# Altium schematic symbol library SLib.SchLib: 12 symbols
Pins are listed as number, name and electrical type; pins without a type are passive.

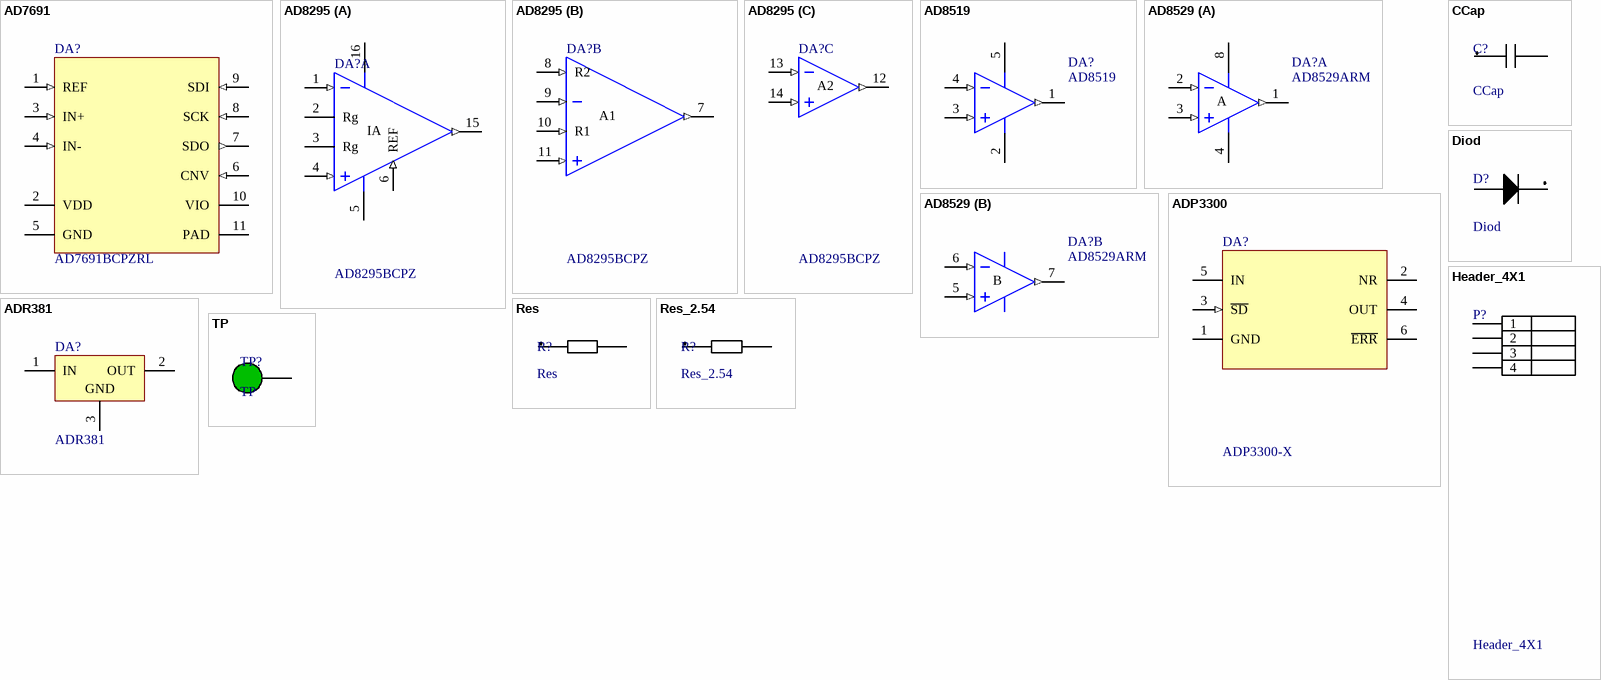
[diagram p0: symbols AD7691 to TP]

## AD7691
designator DA?, comment AD7691BCPZRL
18-Bit, 1.5 LSB INL, 250 kSPS PulSAR  Differential ADC; Published: 8-Jun-2000; LatestRevisionDate: 04-Mar-2005; LatestRevisionNote: Stylized 3D Model Added.; DatasheetVersion: REV.B 1998; PackageVersion: revB, 1996; PackageReference: D-16_B; Publisher: Altium Limited; ComponentLink1Description: Manufacturer Link; ComponentLink1URL: http://www.analog.com/ad7691; ComponentLink2Description: Datasheet; ComponentLink2URL: http://www.analog.com/ad7691
footprint QFN-10N (10-Lead Lead Frame Chip Scale Package [QFN (LFCSP_WD)] 3 mm x 3 mm Body, Very Very Thin, Dual Lead, Pitch 0,50mm, IPC Medium Density)
pins: 1 REF (in), 2 VDD (power), 3 IN+ (in), 4 IN- (in), 5 GND (power), 6 CNV (in), 7 SDO (out), 8 SCK (in), 9 SDI (in), 10 VIO (power), 11 PAD (power)

## AD8295
designator DA?, comment AD8295BCPZ
Precision Instrumentation Amplifier  with Signal Processing Amplifiers; Published: 8-Jun-2000; LatestRevisionDate: 04-Mar-2005; LatestRevisionNote: Stylized 3D Model Added.; DatasheetVersion: REV.B 1998; PackageVersion: revB, 1996; PackageReference: D-16_B; Publisher: Altium Limited; ComponentLink1Description: Manufacturer Link; ComponentLink1URL: http://www.analog.com/ad8295; ComponentLink2Description: Datasheet; ComponentLink2URL: http://www.analog.com/ad8295
footprint LFCSP_VQ-16N (16-Lead Lead Frame Chip Scale Package [LFCSP_VQ] 4 mm x 4 mm Body, Very Thin Quad, Pitch 0,65mm, IPC Medium Density)
part A pins: 1 IN- (in), 2 Rg, 3 Rg (power), 4 IN+ (in), 5 V- (power), 6 REF (in), 15 OUT (out), 16 V+ (power)
part B pins: 7 OUT (out), 8 R2 (in), 9 IN- (in), 10 R1 (in), 11 IN+ (in)
part C pins: 12 OUT (out), 13 IN- (in), 14 IN+ (in)
part A text: IA
part B text: A1
part C text: A2

## AD8519
designator DA?
8 MHz Rail-to-Rail  Operational Amplifier; Published: 8-Jun-2000; LatestRevisionDate: 17-Jul-2002; LatestRevisionNote: Re-released for DXP Platform.; DatasheetVersion: Rev. F 2004; PackageVersion: 2005; PackageReference: KS-5N; Publisher: Altium Limited; Code_JEDEC: MO-178AA; ComponentLink1Description: Manufacturer Link; ComponentLink1URL: http://www.analog.com/ad8519; ComponentLink2Description: Datasheet; ComponentLink2URL: http://www.analog.com/ad8519
footprint RJ-5 (SOT-23/SC-74A; 5 Leads; Body 3.1 x 3 mm, inc. leads (LxW max))
footprint KS-5N (5-Lead Thin Shrink Small Outline Transistor Package [SC70] (KS-5), Pitch 0,65mm, IPC Medium Density)
pins: 1 OUT (out), 2 V- (power), 3 IN+ (in), 4 IN- (in), 5 V+ (power)

## AD8529
designator DA?, comment AD8529ARM
8 MHz Rail-to-Rail  Operational Amplifier; Published: 8-Jun-2000; LatestRevisionDate: 04-Mar-2005; DatasheetVersion: Rev. F 2004; PackageVersion: 2004; PackageReference: RM-8; Publisher: Altium Limited; ComponentLink1Description: Manufacturer Link; ComponentLink1URL: http://www.analog.com/ad8529; ComponentLink2Description: Datasheet; ComponentLink2URL: http://www.analog.com/ad8529
footprint RM-8N (8-Lead Mini Small Outline Package [MSOP] (RM-8), Pitch 0,65mm, IPC Medium Density)
part A pins: 1 OUT (out), 2 IN- (in), 3 IN+ (in), 4 V- (power), 8 V+ (power)
part B pins: 5 IN+ (in), 6 IN- (in), 7 OUT (out)
part A text: A
part B text: B

## ADP3300
designator DA?, comment ADP3300-X
High Accuracy anyCAP 50 mA Low Dropout Linear Regulator; Published: 8-Jun-2000; LatestRevisionDate: 04-Mar-2005; LatestRevisionNote: Stylized 3D Model Added.; DatasheetVersion: REV.B 1998; PackageVersion: revB, 1996; PackageReference: D-16_B; Publisher: Altium Limited; ComponentLink1Description: Manufacturer Link; ComponentLink1URL: http://www.analog.com/adp3300; ComponentLink2Description: Datasheet; ComponentLink2URL: http://www.analog.com/adp3300
footprint SOT23127P600-8N (SOT23-6)
pins: 1 GND (power), 2 NR, 3 ~{SD} (in), 4 OUT (power), 5 IN (power), 6 ~{ERR} (oc)

## ADR381
designator DA?
Precision Low-Drift 2.500 V SOT-23 Voltage Reference; Published: 8-Jun-2000; LatestRevisionDate: 29-May-2009; LatestRevisionNote: IPC-7351 Footprint Added.; DatasheetVersion: REV. 0 1997; PackageVersion: rev0; PackageReference: RT-3_N; Publisher: Altium Limited; PackageDescription: 3-Pin SOT-23 Package 0.95 mm Pitch, 2.4 mm Lead Span; ComponentLink1Description: Manufacturer Link; ComponentLink1URL: http://www.analog.com/adr381; ComponentLink2Description: Datasheet; ComponentLink2URL: http://www.analog.com/adr381
footprint RT-3_N (SOT23, 3-Leads, Body 2.9x1.3mm, Pitch 0.95mm, Lead Span 2.4mm, IPC Medium Density)
footprint RT-3_L (SOT23, 3-Leads, Body 2.9x1.3mm, Pitch 0.95mm, Lead Span 2.4mm, IPC High Density)
footprint RT-3_M (SOT23, 3-Leads, Body 2.9x1.3mm, Pitch 0.95mm, Lead Span 2.4mm, IPC Low Density)
pins: 1 IN (power), 2 OUT (power), 3 GND (power)

## CCap
designator C?
Ceramic capacitor; Value: *; Type: *
footprint 1005[0402]-Xs0.45Ys0.6A0.46RR_CAP (Chip; Body 1.1 x 0.5 mm (LxW typ))
footprint 1005[0402]-Xs0.7Ys0.7A0.46RR_CAP (Chip; Body 1.1 x 0.5 mm (LxW typ))
footprint 1608[0603]-Xs1.0Ys1.1A0.5RR_CAP (Chip; Body 1.6 x 0.8 mm (LxW typ))
footprint 1608[0603]-Xs1.0Ys1.1A0.76RR_CAP (Chip; Body 1.6 x 0.8 mm (LxW typ))
footprint 2012[0805]-Xs1.5Ys1.4A0.8RR_CAP (Chip; Body 2.0 x 1.3 mm (LxW typ))
footprint 2012[0805]-Xs1.5Ys1.4A0.8R_CAP (Chip; Body 2.0 x 1.3 mm (LxW typ))
footprint 2012[0805]-Xs1.5Ys1.4A1.0RR_CAP (Chip; Body 2.0 x 1.3 mm (LxW typ))
footprint 2012[0805]-Xs1.5Ys1.4A1.0R_CAP (Chip; Body 2.0 x 1.3 mm (LxW typ))
signal-integrity model Capacitor
pins: 1, 2

## Diod
designator D?
Diode; RefDef: *; Type: *
signal-integrity model Diode
footprint SOD110 (Molded Diode, 2-Leads, Body 2,1x1,4mm, IPC Medium Density)
pins: 1 A(+), 2 K (-)

## Header_4X1
designator P?
Header, 4-Pin, Single row; RefDef: *; Type: *
footprint HDR1X4 2mm (Connector; Header; 4x1 Position)
signal-integrity model Connector
pins: 1, 2, 3, 4

## Res
designator R?
Resistor; Value: *
footprint 1005[0402]-Xs0.45Ys0.6A0.46RR_RES (Chip; Body 1.1 x 0.5 mm (LxW typ))
footprint 1005[0402]-Xs0.7Ys0.7A0.46RR_RES (Chip; Body 1.1 x 0.5 mm (LxW typ))
footprint 1608[0603]-Xs1.0Ys1.1A0.5RR_RES (Chip; Body 1.6 x 0.8 mm (LxW typ))
footprint 1608[0603]-Xs1.0Ys1.1A0.76RR_RES (Chip; Body 1.6 x 0.8 mm (LxW typ))
footprint 2012[0805]-Xs1.5Ys1.4A0.8RR_RES (Chip; Body 2.0 x 1.3 mm (LxW typ))
footprint 2012[0805]-Xs1.5Ys1.4A0.8R_RES (Chip; Body 2.0 x 1.3 mm (LxW typ))
footprint 2012[0805]-Xs1.5Ys1.4A1.0RR_RES (Chip; Body 2.0 x 1.3 mm (LxW typ))
footprint 2012[0805]-Xs1.5Ys1.4A1.0R_RES (Chip; Body 2.0 x 1.3 mm (LxW typ))
signal-integrity model Resisitor
footprint 6332[2512]-XS4.0YS1.5A4.2R_RES (Chip Resistor, Body 6.3x3.2mm, IPC High Density)
pins: 1, 2

## Res_2.54
designator R?
Resistor; Value: *
footprint 1005[0402]-Xs0.45Ys0.6A0.46RR_RES (Chip; Body 1.1 x 0.5 mm (LxW typ))
footprint 1005[0402]-Xs0.7Ys0.7A0.46RR_RES (Chip; Body 1.1 x 0.5 mm (LxW typ))
footprint 1608[0603]-Xs1.0Ys1.1A0.5RR_RES (Chip; Body 1.6 x 0.8 mm (LxW typ))
footprint 1608[0603]-Xs1.0Ys1.1A0.76RR_RES (Chip; Body 1.6 x 0.8 mm (LxW typ))
footprint 2012[0805]-Xs1.5Ys1.4A0.8RR_RES (Chip; Body 2.0 x 1.3 mm (LxW typ))
footprint 2012[0805]-Xs1.5Ys1.4A0.8R_RES (Chip; Body 2.0 x 1.3 mm (LxW typ))
footprint 2012[0805]-Xs1.5Ys1.4A1.0RR_RES (Chip; Body 2.0 x 1.3 mm (LxW typ))
footprint 2012[0805]-Xs1.5Ys1.4A1.0R_RES (Chip; Body 2.0 x 1.3 mm (LxW typ))
signal-integrity model Resisitor
footprint 6332[2512]-XS4.0YS1.5A4.2R_RES (Chip Resistor, Body 6.3x3.2mm, IPC High Density)
pins: 1, 2

## TP
designator TP?
Test point
footprint TP (Test point)
footprint TPMulti (Test point)
pins: TP